# EAGLE library part LSM6DS3_ACCELEROMETER/GYRO_BREAKOUT (library e-radionica_E-R MADE)
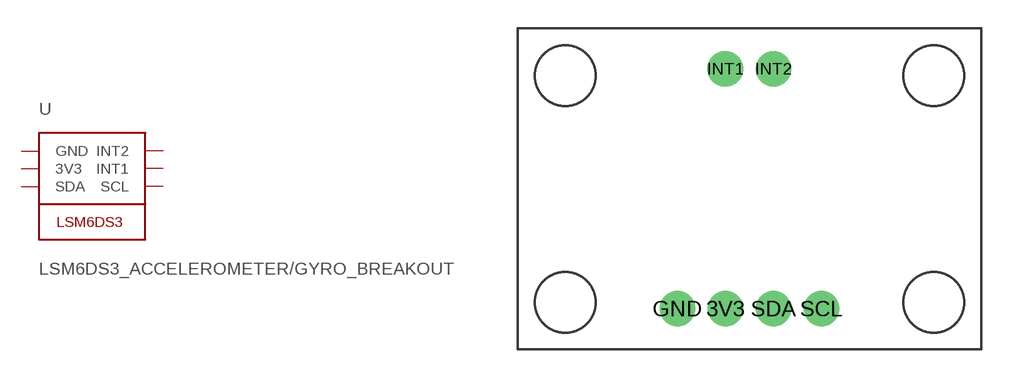
[diagram p10: symbol with the pads of LSM6DS3_ACCELEROMETER/GYRO_BREAKOUT; footprint LSM6DS3_ACCELEROMETER/GYRO_BREAKOUT]

Designator prefix -

## LSM6DS3_ACCELEROMETER/GYRO_BREAKOUT  [LSM6DS3_ACCELEROMETER/GYRO_BREAKOUT]
3V3  3V3  sup
GND  GND  sup
INT1  INT1
INT2  INT2
SCL  SCL
SDA  SDA

## Footprint LSM6DS3_ACCELEROMETER/GYRO_BREAKOUT (pad centres in mm)
drill 1.016 pad 1.88: 3V3 10.972,2.15; GND 8.432,2.15; INT1 10.968,14.85; INT2 13.508,14.85; SCL 16.052,2.15; SDA 13.512,2.15